# Altium schematic symbol library Trans_ON_Semi_FDC6333C_eec.SchLib: 1 symbol
Pins are listed as number, name and electrical type; pins without a type are passive.

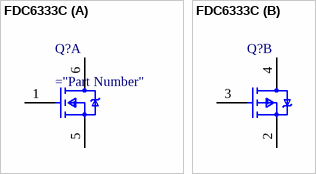
[diagram p0: symbol FDC6333C]

## FDC6333C
designator Q?  (value not drawn)
part A pins: 1 1 G, 5 1 S, 6 1 D
part B pins: 2 2 S, 3 2 G, 4 2 D